# EAGLE library part B6B-XH-A(LF)(SN) (library GoBabyGoControleBordLib)
CONN HEADER VERT 6POS 2.5MM Manufacturer's datasheet <http://www.jst-mfg.com/product/pdf/eng/eXH.pdf>
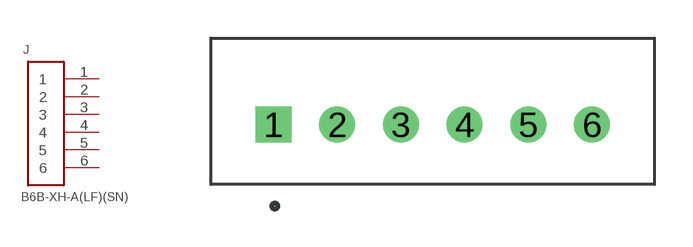
[diagram p2: symbol with the pads of B6B-XH-A(LF)(SN); footprint B6B-XH-A(LF)(SN)]

Designator prefix J

## B6B-XH-A(LF)(SN) (CREATED_BY: PCBLayout.com; DIGIKEY_PARTNO: 455-2271-ND; MANUFACTURER: JST Sales America Inc.; MPN: B6B-XH-A(LF)(SN))  [B6B-XH-A(LF)(SN)]
1  1  pas
2  2  pas
3  3  pas
4  4  pas
5  5  pas
6  6  pas

## Footprint B6B-XH-A(LF)(SN) (pad centres in mm)
drill 0.9 square: 1 -6.25,0
drill 0.9: 2 -3.75,0; 3 -1.25,0; 4 1.25,0; 5 3.75,0; 6 6.25,0